# Altium schematic symbol library 1k.SchLib: 1 symbol
Pins are listed as number, name and electrical type; pins without a type are passive.

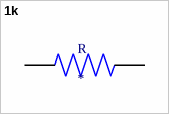
[diagram p0: symbol 1k]

## 1k
designator R
Res Thick Film 0603 1K Ohm 0.1% 0.2W(1/5W) Â±50ppm/C Pad SMD Automotive T/R; MF: Panasonic Electronic; MP: ERJ-PB3B1001V; Package: 1608 Panasonic Electronic Components; Value: *; Price: None; Availability: Unavailable; Mouser-Purchase-URL: https://snapeda.com/shop?store=Mouser&id=937725; SnapEDA_Link: https://www.snapeda.com/parts/ERJ-PB3B1001V/Panasonic%20Electronic%20Components/view-part/937725/?ref=snap
footprint 1k
pins: 1, 2